# Altium footprint library Susumu.PcbLib: 6 footprints
Each footprint in its own frame and in the unit in brackets; x right, y up, seen from the top. Pads: shape width x height; smd on the part's side, far side on the other; paste and mask are expansions set on the pad; w line width, h text height; cw(c..) or ccw(c..) is an arc to the next point about the centre after c.
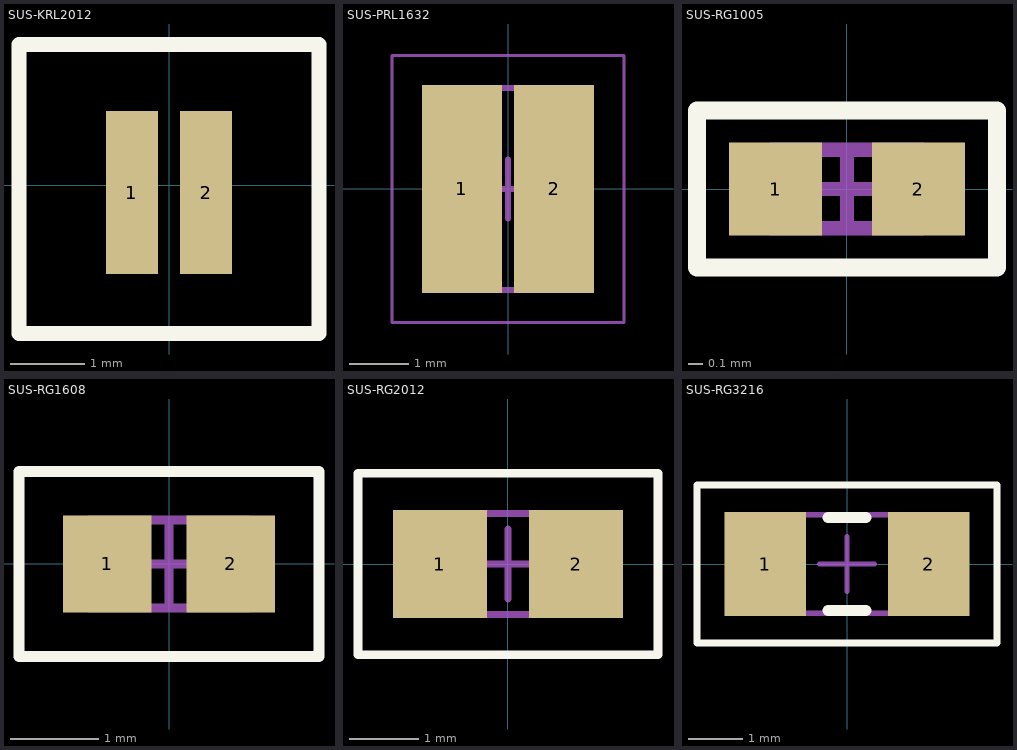
[diagram p0: the footprints below, top view; thin cyan lines are the x and y axes]

## SUS-KRL2012 [mm] "1 mOhms ?% 1W Chip Resistor Wide 0805 (2012 Metric), 0508 Automotive AEC-Q200, Current Sense Metal Foil"
height 0.5
pads (2):
  rect 0.7x2.2 smd: 1(-0.5,-0.1) 2(0.5,-0.1)
Top Overlay:
  lines w0.2: -2.025,-2 2.025,-2 2.025,1.9 -2.025,1.9 -2.025,-0.1 -2.025,-2
3D body "RES_2012.step": height 0.7, standoff 0, extent -0.725,-1.2 0.725,1

## SUS-PRL1632 [mm] "Resistance: 5 mΩ  Tolerance: 1.0%  Power: 1 W"
height 0.6
pads (2):
  rect 1.35x3.5 smd: 1(-0.775,0) 2(0.775,0)
Assembly Top:
  lines w0.1: -0.9,-1.7 0.9,-1.7 0.9,1.7 -0.9,1.7 -0.9,-1.7
Courtyard Top:
  lines w0.05: -1.95,-2.25 1.95,-2.25 1.95,2.25 -1.95,2.25 -1.95,-2.25
  lines w0.1: -0.5,0 0.5,0 ; 0,-0.5 0,0.5
3D body: height 0.6, standoff 0, extent 0.45,-1.7 0.9,1.7
3D body: height 0.6, standoff 0, extent -0.9,-1.7 -0.45,1.7
3D body: height 0.6, standoff 0, extent -0.45,-1.7 0.45,1.7

## SUS-RG1005 [mm] "Chip Resistor, 2-Leads, Body 1.00x0.50mm, IPC Low Density"
height 0.4
pads (2):
  rect 0.65x0.65 smd: 1(-0.5,0) 2(0.5,0)
Top Overlay:
  lines w0.127: -1.05,-0.55 -1.05,0.55 1.05,0.55 1.05,-0.55 -1.05,-0.55
Mechanical 13:
  lines w0.1: -0.525,-0.275 -0.525,0.275 0.525,0.275 0.525,-0.275 -0.525,-0.275
Mechanical 15:
  lines w0.05: -1.05,-0.55 1.05,-0.55 1.05,0.55 -1.05,0.55 -1.05,-0.55
  lines w0.1: -0.275,0 0.275,0 ; 0,-0.275 0,0.275
3D body: height 0.4, standoff 0, extent -0.325,-0.275 0.325,0.275
3D body: height 0.4, standoff 0, extent -0.525,-0.275 -0.325,0.275
3D body: height 0.4, standoff 0, extent 0.325,-0.275 0.525,0.275

## SUS-RG1608 [mm] "Chip Resistor, 2-Leads, Body 1.60x0.80mm, IPC Low Density"
height 0.5
pads (2):
  rect 1x1.1 smd: 1(-0.7,0) 2(0.7,0)
Top Overlay:
  lines w0.127: -1.7,-1.05 1.7,-1.05 1.7,1.05 -1.7,1.05 -1.7,-1.05
Mechanical 13:
  lines w0.1: -0.9,-0.5 0.9,-0.5 0.9,0.5 -0.9,0.5 -0.9,-0.5
Mechanical 15:
  lines w0.05: -1.7,-1.05 -1.7,1.05 1.7,1.05 1.7,-1.05 -1.7,-1.05
  lines w0.1: -0.5,0 0.5,0 ; 0,-0.5 0,0.5
3D body: height 0.5, standoff 0, extent 0.6,-0.5 0.9,0.5
3D body: height 0.5, standoff 0, extent -0.9,-0.5 -0.6,0.5
3D body: height 0.5, standoff 0, extent -0.6,-0.5 0.6,0.5

## SUS-RG2012 [mm] "Chip Resistor, 2-Leads, Body 2.00x1.25mm, IPC Low Density"
height 0.5
pads (2):
  rect 1.35x1.55 smd: 1(-0.975,0) 2(0.975,0)
Top Overlay:
  lines w0.127: -2.15,-1.3 -2.15,1.3 2.15,1.3 2.15,-1.3 -2.15,-1.3
Mechanical 13:
  lines w0.1: -1.1,-0.725 -1.1,0.725 1.1,0.725 1.1,-0.725 -1.1,-0.725
Mechanical 15:
  lines w0.05: -2.15,-1.3 2.15,-1.3 2.15,1.3 -2.15,1.3 -2.15,-1.3
  lines w0.1: -0.5,0 0.5,0 ; 0,-0.5 0,0.5
3D body: height 0.5, standoff 0, extent -0.7,-0.725 0.7,0.725
3D body: height 0.5, standoff 0, extent -1.1,-0.725 -0.7,0.725
3D body: height 0.5, standoff 0, extent 0.7,-0.725 1.1,0.725

## SUS-RG3216 [mm] "Chip Resistor, 2-Leads, Body 3.20x1.60mm, IPC Low Density"
height 0.5
pads (2):
  rect 1.5x1.9 smd: 1(-1.5,0) 2(1.5,0)
Top Overlay:
  lines w0.127: -2.75,-1.45 -2.75,1.45 2.75,1.45 2.75,-1.45 -2.75,-1.45
  lines w0.2: -0.35,-0.85 0.35,-0.85 ; -0.35,0.85 0.35,0.85
Mechanical 13:
  lines w0.1: -1.7,-0.9 -1.7,0.9 1.7,0.9 1.7,-0.9 -1.7,-0.9
Mechanical 15:
  lines w0.05: -2.75,-1.45 2.75,-1.45 2.75,1.45 -2.75,1.45 -2.75,-1.45
  lines w0.1: -0.5,0 0.5,0 ; 0,-0.5 0,0.5
3D body: height 0.5, standoff 0, extent -1.2,-0.9 1.2,0.9
3D body: height 0.5, standoff 0, extent -1.7,-0.9 -1.2,0.9
3D body: height 0.5, standoff 0, extent 1.2,-0.9 1.7,0.9